# Altium integrated library PIC18F25K50IML.IntLib: 1 symbol
Pins are listed as number, name and electrical type; pins without a type are passive.

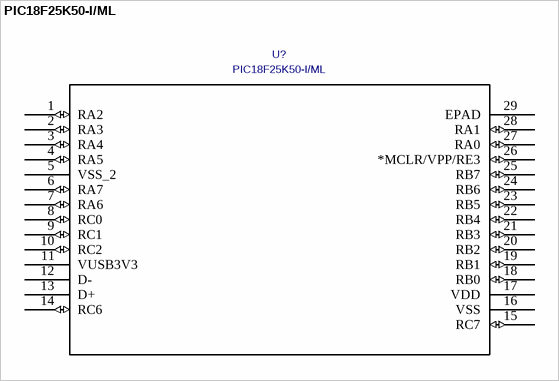
[diagram p0: symbol PIC18F25K50-I/ML]

## PIC18F25K50-I/ML
designator U?
C: Copyright (C) 2015 Accelerated Designs. All rights reserved; Vendor: Microchip; Built_By: EMA_UL_Team; SourceLibrary: Microchip_2014-11-20; Value: PIC18F25K50-I/ML; Manufacturer_Part_Number: PIC18F25K50-I/ML
footprint QFN28_6X6MC_MCH
pins: 1 RA2 (io), 2 RA3 (io), 3 RA4 (io), 4 RA5 (io), 5 VSS_2 (power), 6 RA7 (io), 7 RA6 (io), 8 RC0 (io), 9 RC1 (io), 10 RC2 (io), 11 VUSB3V3 (power), 12 D-, 13 D+, 14 RC6 (io), 15 RC7 (io), 16 VSS (power), 17 VDD (power), 18 RB0 (io), 19 RB1 (io), 20 RB2 (io), 21 RB3 (io), 22 RB4 (io), 23 RB5 (io), 24 RB6 (io), 25 RB7 (io), 26 *MCLR/VPP/RE3 (io), 27 RA0 (io), 28 RA1 (io), 29 EPAD